# Altium schematic symbol library SCH - CLOCK GENERATOR - SKYWORKS SI5391.SchLib: 1 symbol
Pins are listed as number, name and electrical type; pins without a type are passive.

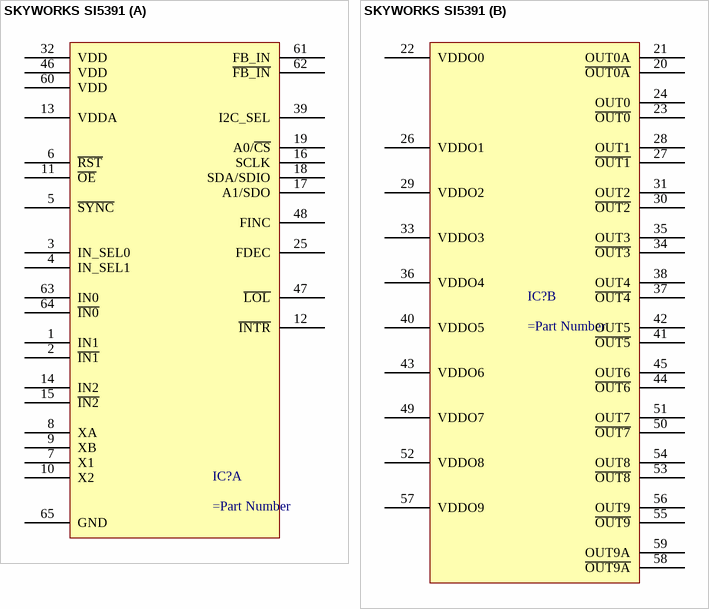
[diagram p0: symbol SKYWORKS SI5391]

## SKYWORKS SI5391
designator IC?
part A pins: 1 IN1, 2 ~{IN1}, 3 IN_SEL0, 4 IN_SEL1, 5 ~{SYNC}, 6 ~{RST}, 7 X1, 8 XA, 9 XB, 10 X2, 11 ~{OE}, 12 ~{INTR}, 13 VDDA, 14 IN2, 15 ~{IN2}, 16 SCLK, 17 A1/SDO, 18 SDA/SDIO, 19 A0/~{CS}, 25 FDEC, 32 VDD, 39 I2C_SEL, 46 VDD, 47 ~{LOL}, 48 FINC, 60 VDD, 61 FB_IN, 62 ~{FB_IN}, 63 IN0, 64 ~{IN0}, 65 GND
part B pins: 20 ~{OUT0A}, 21 OUT0A, 22 VDDO0, 23 ~{OUT0}, 24 OUT0, 26 VDDO1, 27 ~{OUT1}, 28 OUT1, 29 VDDO2, 30 ~{OUT2}, 31 OUT2, 33 VDDO3, 34 ~{OUT3}, 35 OUT3, 36 VDDO4, 37 ~{OUT4}, 38 OUT4, 40 VDDO5, 41 ~{OUT5}, 42 OUT5, 43 VDDO6, 44 ~{OUT6}, 45 OUT6, 49 VDDO7, 50 ~{OUT7}, 51 OUT7, 52 VDDO8, 53 ~{OUT8}, 54 OUT8, 55 ~{OUT9}, 56 OUT9, 57 VDDO9, 58 ~{OUT9A}, 59 OUT9A